# Altium schematic symbol library BQ25703ARSNR.Schlib: 1 symbol
Pins are listed as number, name and electrical type; pins without a type are passive.

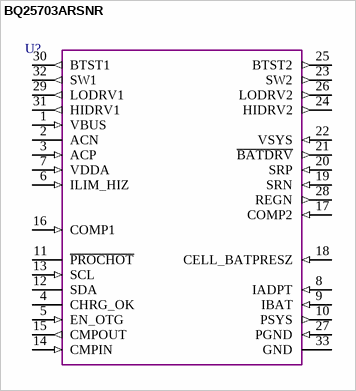
[diagram p0: symbol BQ25703ARSNR]

## BQ25703ARSNR
designator U?  (value not drawn)
pins: 1 VBUS (in), 2 ACN, 3 ACP (in), 4 CHRG_OK (oc), 5 EN_OTG (in), 6 ILIM_HIZ (in), 7 VDDA (in), 8 IADPT (in), 9 IBAT (in), 10 PSYS (out), 11 ~{PROCHOT} (oc), 12 SDA (oc), 13 SCL (in), 14 CMPIN (in), 15 CMPOUT (out), 16 COMP1 (in), 17 COMP2 (in), 18 CELL_BATPRESZ (in), 19 SRN (in), 20 SRP (in), 21 ~{BATDRV} (out), 22 VSYS (in), 23 SW2 (out), 24 HIDRV2 (out), 25 BTST2 (out), 26 LODRV2 (out), 27 PGND (in), 28 REGN (out), 29 LODRV1 (out), 30 BTST1 (out), 31 HIDRV1 (out), 32 SW1 (out), 33 GND (power)